# EAGLE library part TC1765 (library micro-siemens)
TC1765 (AUDO1) 32-bit microcontroller for automotive and industrial applications (e.g. engine management, transmission, starter generator or 3-phase motor control) Source: http://www.infineon.com ..
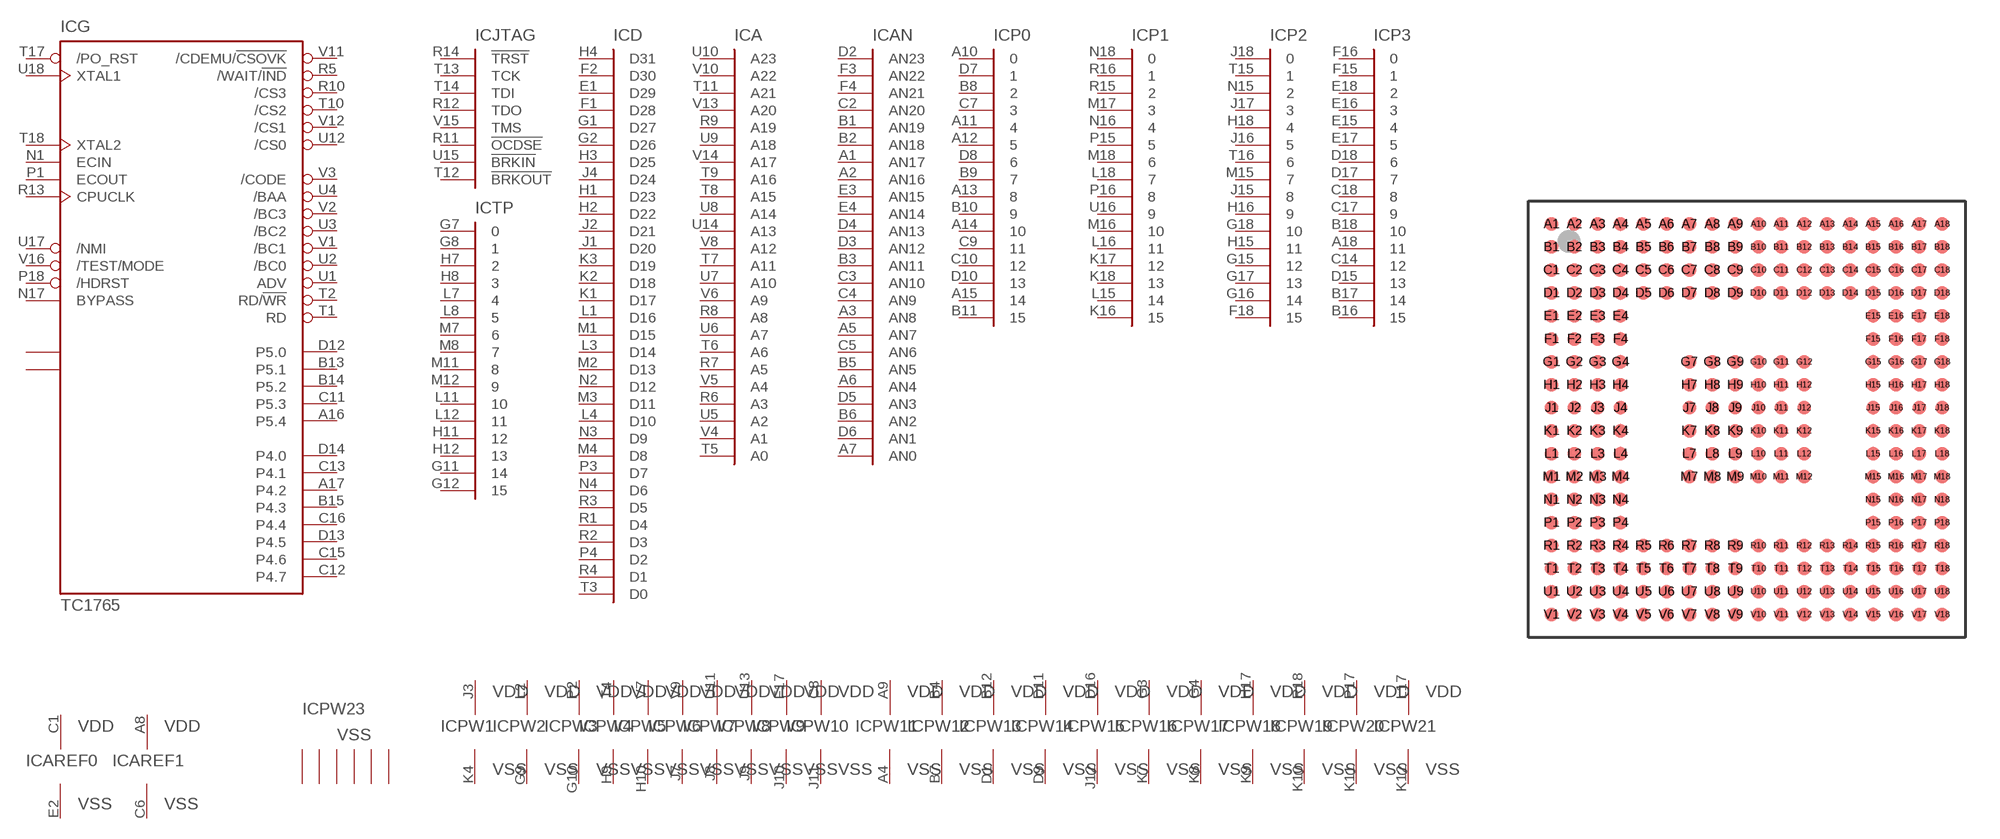
[diagram p72: symbol with the pads of P-LBGA-260; footprint P-LBGA-260]

Designator prefix IC; gates TP=PORT16 D=D31 A=A23 AN=AN23 JTAG=JTAG-OCSD P1=PORT16 P2=PORT16 P3=PORT16 P0=PORT16 PW1=VSS_VDD PW2=VSS_VDD PW3=VSS_VDD PW4=VSS_VDD PW5=VSS_VDD PW6=VSS_VDD PW7=VSS_VDD PW8=VSS_VDD PW9=VSS_VDD PW10=VSS_VDD G=TC1765 AREF0=VSS_VDD AREF1=VSS_VDD PW11=VSS_VDD PW12=VSS_VDD PW13=VSS_VDD PW14=VSS_VDD PW15=VSS_VDD PW16=VSS_VDD PW17=VSS_VDD PW18=VSS_VDD PW19=VSS_VDD PW20=VSS_VDD PW21=VSS_VDD PW23=GND6

## TC1765 (OC_FARNELL: unknown; OC_NEWARK: unknown)  [P-LBGA-260]
A1  AN:AN17  in
A2  AN:AN16  in
A3  AN:AN8  in
A4  PW11:VSS  pwr
A5  AN:AN7  in
A6  AN:AN4  in
A7  AN:AN0  in
A8  AREF1:VDD  pwr
A9  PW11:VDD  pwr
A10  P0:0  in
A11  P0:4  in
A12  P0:5  in
A13  P0:8  in
A14  P0:10  in
A15  P0:14  in
A16  G:P5.4
A17  G:P4.2
A18  P3:11  in
B1  AN:AN19  in
B2  AN:AN18  in
B3  AN:AN11  in
B4  PW12:VDD  pwr
B5  AN:AN5  in
B6  AN:AN2  in
B7  PW12:VSS  pwr
B8  P0:2  in
B9  P0:7  in
B10  P0:9  in
B11  P0:15  in
B12  PW13:VDD  pwr
B13  G:P5.1
B14  G:P5.2
B15  G:P4.3
B16  P3:15  in
B17  P3:14  in
B18  P3:10  in
C1  AREF0:VDD  pwr
C2  AN:AN20  in
C3  AN:AN10  in
C4  AN:AN9  in
C5  AN:AN6  in
C6  AREF1:VSS  pwr
C7  P0:3  in
C8  PW10:VDD  pwr
C9  P0:11  in
C10  P0:12  in
C11  G:P5.3
C12  G:P4.7
C13  G:P4.1
C14  P3:12  in
C15  G:P4.6
C16  G:P4.4
C17  P3:9  in
C18  P3:8  in
D1  PW13:VSS  pwr
D2  AN:AN23  in
D3  AN:AN12  in
D4  AN:AN13  in
D5  AN:AN3  in
D6  AN:AN1  in
D7  P0:1  in
D8  P0:6  in
D9  PW14:VSS  pwr
D10  P0:13  in
D11  PW14:VDD  pwr
D12  G:P5.0
D13  G:P4.5
D14  G:P4.0
D15  P3:13  in
D16  PW15:VDD  pwr
D17  P3:7  in
D18  P3:6  in
E1  D:D29
E2  AREF0:VSS  pwr
E3  AN:AN15  in
E4  AN:AN14  in
E15  P3:4  in
E16  P3:3  in
E17  P3:5  in
E18  P3:2  in
F1  D:D28
F2  D:D30
F3  AN:AN22  in
F4  AN:AN21  in
F15  P3:1  in
F16  P3:0  in
F17  PW9:VDD  pwr
F18  P2:15  in
G1  D:D27
G2  D:D26
G3  PW16:VDD  pwr
G4  PW17:VDD  pwr
G7  TP:0  in
G8  TP:1  in
G9  PW2:VSS  pwr
G10  PW3:VSS  pwr
G11  TP:14  in
G12  TP:15  in
G15  P2:12  in
G16  P2:14  in
G17  P2:13  in
G18  P2:10  in
H1  D:D23
H2  D:D22
H3  D:D25
H4  D:D31
H7  TP:2  in
H8  TP:3  in
H9  PW4:VSS  pwr
H10  PW5:VSS  pwr
H11  TP:12  in
H12  TP:13  in
H15  P2:11  in
H16  P2:9  in
H17  PW18:VDD  pwr
H18  P2:4  in
J1  D:D20
J2  D:D21
J3  PW1:VDD  pwr
J4  D:D24
J7  PW6:VSS  pwr
J8  PW7:VSS  pwr
J9  PW8:VSS  pwr
J10  PW9:VSS  pwr
J11  PW10:VSS  pwr
J12  PW15:VSS  pwr
J15  P2:8  in
J16  P2:5  in
J17  P2:3  in
J18  P2:0  in
K1  D:D17
K2  D:D18
K3  D:D19
K4  PW1:VSS  pwr
K7  PW16:VSS  pwr
K8  PW17:VSS  pwr
K9  PW18:VSS  pwr
K10  PW19:VSS  pwr
K11  PW20:VSS  pwr
K12  PW21:VSS  pwr
K15  PW23:GND  pwr
K16  P1:15  in
K17  P1:12  in
K18  P1:13  in
L1  D:D16
L2  PW2:VDD  pwr
L3  D:D14
L4  D:D10
L7  TP:4  in
L8  TP:5  in
L9  PW23:GND  pwr
L10  PW23:GND  pwr
L11  TP:10  in
L12  TP:11  in
L15  P1:14  in
L16  P1:11  in
L17  PW21:VDD  pwr
L18  P1:7  in
M1  D:D15
M2  D:D13
M3  D:D11
M4  D:D8
M7  TP:6  in
M8  TP:7  in
M9  PW23:GND  pwr
M10  PW23:GND  pwr
M11  TP:8  in
M12  TP:9  in
M15  P2:7  in
M16  P1:10  in
M17  P1:3  in
M18  P1:6  in
N1  G:ECIN
N2  D:D12
N3  D:D9
N4  D:D6
N15  P2:2  in
N16  P1:4  in
N17  G:BYPASS
N18  P1:0  in
P1  G:ECOUT
P2  PW3:VDD  pwr
P3  D:D7
P4  D:D2
P15  P1:5  in
P16  P1:8  in
P17  PW20:VDD  pwr
P18  G:/HDRST
R1  D:D4
R2  D:D3
R3  D:D5
R4  D:D1
R5  G:/WAIT/!IND
R6  A:A3  out
R7  A:A5  out
R8  A:A8  out
R9  A:A19  out
R10  G:/CS3
R11  JTAG:!OCDSE  in
R12  JTAG:TDO  out
R13  G:CPUCLK
R14  JTAG:!TRST  in
R15  P1:2  in
R16  P1:1  in
R17  PW23:GND  pwr
R18  PW19:VDD  pwr
T1  G:RD
T2  G:RD/!WR
T3  D:D0
T4  PW4:VDD  pwr
T5  A:A0  out
T6  A:A6  out
T7  A:A11  out
T8  A:A15  out
T9  A:A16  out
T10  G:/CS2
T11  A:A21  out
T12  JTAG:!BRKOUT  out
T13  JTAG:TCK  in
T14  JTAG:TDI  in
T15  P2:1  in
T16  P2:6  in
T17  G:/PO_RST
T18  G:XTAL2
U1  G:ADV
U2  G:/BC0
U3  G:/BC2
U4  G:/BAA
U5  A:A2  out
U6  A:A7  out
U7  A:A10  out
U8  A:A14  out
U9  A:A18  out
U10  A:A23  out
U11  PW7:VDD  pwr
U12  G:/CS0
U13  PW8:VDD  pwr
U14  A:A13  out
U15  JTAG:!BRKIN  in
U16  P1:9  in
U17  G:/NMI
U18  G:XTAL1
V1  G:/BC1
V2  G:/BC3
V3  G:/CODE
V4  A:A1  out
V5  A:A4  out
V6  A:A9  out
V7  PW5:VDD  pwr
V8  A:A12  out
V9  PW6:VDD  pwr
V10  A:A22  out
V11  G:/CDEMU/!CSOVK
V12  G:/CS1
V13  A:A20  out
V14  A:A17  out
V15  JTAG:TMS  in
V16  G:/TEST/MODE
V17  G:NC  nc
V18  G:NC  nc

## Footprint P-LBGA-260 (pad centres in mm)
P-LBGA-260 Plastic Ball Grid Array Package Source: http://www.infineon.com
smd 0.6 x 0.6: A1 -8.5,8.5; A2 -7.5,8.5; A3 -6.5,8.5; A4 -5.5,8.5; A5 -4.5,8.5; A6 -3.5,8.5; A7 -2.5,8.5; A8 -1.5,8.5; A9 -0.5,8.5; A10 0.5,8.5; A11 1.5,8.5; A12 2.5,8.5; A13 3.5,8.5; A14 4.5,8.5; A15 5.5,8.5; A16 6.5,8.5; A17 7.5,8.5; A18 8.5,8.5; B1 -8.5,7.5; B2 -7.5,7.5; B3 -6.5,7.5; B4 -5.5,7.5; B5 -4.5,7.5; B6 -3.5,7.5; B7 -2.5,7.5; B8 -1.5,7.5; B9 -0.5,7.5; B10 0.5,7.5; B11 1.5,7.5; B12 2.5,7.5; B13 3.5,7.5; B14 4.5,7.5; B15 5.5,7.5; B16 6.5,7.5; B17 7.5,7.5; B18 8.5,7.5; C1 -8.5,6.5; C2 -7.5,6.5; C3 -6.5,6.5; C4 -5.5,6.5; C5 -4.5,6.5; C6 -3.5,6.5; C7 -2.5,6.5; C8 -1.5,6.5; C9 -0.5,6.5; C10 0.5,6.5; C11 1.5,6.5; C12 2.5,6.5; C13 3.5,6.5; C14 4.5,6.5; C15 5.5,6.5; C16 6.5,6.5; C17 7.5,6.5; C18 8.5,6.5; D1 -8.5,5.5; D2 -7.5,5.5; D3 -6.5,5.5; D4 -5.5,5.5; D5 -4.5,5.5; D6 -3.5,5.5; D7 -2.5,5.5; D8 -1.5,5.5; D9 -0.5,5.5; D10 0.5,5.5; D11 1.5,5.5; D12 2.5,5.5; D13 3.5,5.5; D14 4.5,5.5; D15 5.5,5.5; D16 6.5,5.5; D17 7.5,5.5; D18 8.5,5.5; E1 -8.5,4.5; E2 -7.5,4.5; E3 -6.5,4.5; E4 -5.5,4.5; E15 5.5,4.5; E16 6.5,4.5; E17 7.5,4.5; E18 8.5,4.5; F1 -8.5,3.5; F2 -7.5,3.5; F3 -6.5,3.5; F4 -5.5,3.5; F15 5.5,3.5; F16 6.5,3.5; F17 7.5,3.5; F18 8.5,3.5; G1 -8.5,2.5; G2 -7.5,2.5; G3 -6.5,2.5; G4 -5.5,2.5; G7 -2.5,2.5; G8 -1.5,2.5; G9 -0.5,2.5; G10 0.5,2.5; G11 1.5,2.5; G12 2.5,2.5; G15 5.5,2.5; G16 6.5,2.5; G17 7.5,2.5; G18 8.5,2.5; H1 -8.5,1.5; H2 -7.5,1.5; H3 -6.5,1.5; H4 -5.5,1.5; H7 -2.5,1.5; H8 -1.5,1.5; H9 -0.5,1.5; H10 0.5,1.5; H11 1.5,1.5; H12 2.5,1.5; H15 5.5,1.5; H16 6.5,1.5; H17 7.5,1.5; H18 8.5,1.5; J1 -8.5,0.5; J2 -7.5,0.5; J3 -6.5,0.5; J4 -5.5,0.5; J7 -2.5,0.5; J8 -1.5,0.5; J9 -0.5,0.5; J10 0.5,0.5; J11 1.5,0.5; J12 2.5,0.5; J15 5.5,0.5; J16 6.5,0.5; J17 7.5,0.5; J18 8.5,0.5; K1 -8.5,-0.5; K2 -7.5,-0.5; K3 -6.5,-0.5; K4 -5.5,-0.5; K7 -2.5,-0.5; K8 -1.5,-0.5; K9 -0.5,-0.5; K10 0.5,-0.5; K11 1.5,-0.5; K12 2.5,-0.5; K15 5.5,-0.5; K16 6.5,-0.5; K17 7.5,-0.5; K18 8.5,-0.5; L1 -8.5,-1.5; L2 -7.5,-1.5; L3 -6.5,-1.5; L4 -5.5,-1.5; L7 -2.5,-1.5; L8 -1.5,-1.5; L9 -0.5,-1.5; L10 0.5,-1.5; L11 1.5,-1.5; L12 2.5,-1.5; L15 5.5,-1.5; L16 6.5,-1.5; L17 7.5,-1.5; L18 8.5,-1.5; M1 -8.5,-2.5; M2 -7.5,-2.5; M3 -6.5,-2.5; M4 -5.5,-2.5; M7 -2.5,-2.5; M8 -1.5,-2.5; M9 -0.5,-2.5; M10 0.5,-2.5; M11 1.5,-2.5; M12 2.5,-2.5; M15 5.5,-2.5; M16 6.5,-2.5; M17 7.5,-2.5; M18 8.5,-2.5; N1 -8.5,-3.5; N2 -7.5,-3.5; N3 -6.5,-3.5; N4 -5.5,-3.5; N15 5.5,-3.5; N16 6.5,-3.5; N17 7.5,-3.5; N18 8.5,-3.5; P1 -8.5,-4.5; P2 -7.5,-4.5; P3 -6.5,-4.5; P4 -5.5,-4.5; P15 5.5,-4.5; P16 6.5,-4.5; P17 7.5,-4.5; P18 8.5,-4.5; R1 -8.5,-5.5; R2 -7.5,-5.5; R3 -6.5,-5.5; R4 -5.5,-5.5; R5 -4.5,-5.5; R6 -3.5,-5.5; R7 -2.5,-5.5; R8 -1.5,-5.5; R9 -0.5,-5.5; R10 0.5,-5.5; R11 1.5,-5.5; R12 2.5,-5.5; R13 3.5,-5.5; R14 4.5,-5.5; R15 5.5,-5.5; R16 6.5,-5.5; R17 7.5,-5.5; R18 8.5,-5.5; T1 -8.5,-6.5; T2 -7.5,-6.5; T3 -6.5,-6.5; T4 -5.5,-6.5; T5 -4.5,-6.5; T6 -3.5,-6.5; T7 -2.5,-6.5; T8 -1.5,-6.5; T9 -0.5,-6.5; T10 0.5,-6.5; T11 1.5,-6.5; T12 2.5,-6.5; T13 3.5,-6.5; T14 4.5,-6.5; T15 5.5,-6.5; T16 6.5,-6.5; T17 7.5,-6.5; T18 8.5,-6.5; U1 -8.5,-7.5; U2 -7.5,-7.5; U3 -6.5,-7.5; U4 -5.5,-7.5; U5 -4.5,-7.5; U6 -3.5,-7.5; U7 -2.5,-7.5; U8 -1.5,-7.5; U9 -0.5,-7.5; U10 0.5,-7.5; U11 1.5,-7.5; U12 2.5,-7.5; U13 3.5,-7.5; U14 4.5,-7.5; U15 5.5,-7.5; U16 6.5,-7.5; U17 7.5,-7.5; U18 8.5,-7.5; V1 -8.5,-8.5; V2 -7.5,-8.5; V3 -6.5,-8.5; V4 -5.5,-8.5; V5 -4.5,-8.5; V6 -3.5,-8.5; V7 -2.5,-8.5; V8 -1.5,-8.5; V9 -0.5,-8.5; V10 0.5,-8.5; V11 1.5,-8.5; V12 2.5,-8.5; V13 3.5,-8.5; V14 4.5,-8.5; V15 5.5,-8.5; V16 6.5,-8.5; V17 7.5,-8.5; V18 8.5,-8.5